# EAGLE library part PIC16F1459 (library maxorig)
PIC16F1459 - Low cost 8-bit USB PIC microcontroller One of the only USB-capable microcontrollers available in a DIP package for beginner solderers. Technical specifications: VCC: 2.3-5.5V (1.8-3.6V on L series) Program space: 8 Kb RAM: 1 Kb GPIOs: 17 (includes 3 input-only pins) ADC channels: 9 ADC bits: 10 DACs: 1 1 UART/LIN 1 I2C/SPI
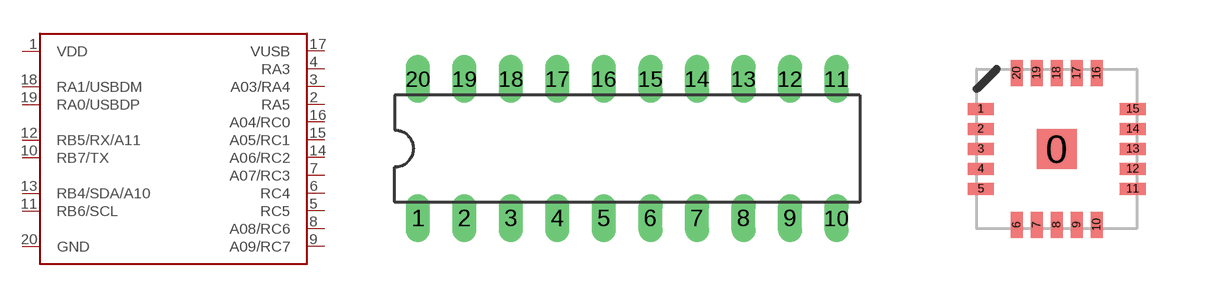
[diagram p4: symbol with the pads of DIL20; footprints DIL20, QFN20_4X4]

Designator prefix -

## PIC16F1459DIL  [DIL20]
1  VDD
2  RA5
3  A03/RA4
4  RA3
5  RC5
6  RC4
7  A07/RC3
8  A08/RC6
9  A09/RC7
10  RB7/TX
11  RB6/SCL
12  RB5/RX/A11
13  RB4/SDA/A10
14  A06/RC2
15  A05/RC1
16  A04/RC0
17  VUSB
18  RA1/USBDM
19  RA0/USBDP
20  GND

## PIC16F1459QFN  [QFN20_4X4]
0  GND
1  RA3
2  RC5
3  RC4
4  A07/RC3
5  A08/RC6
6  A09/RC7
7  RB7/TX
8  RB6/SCL
9  RB5/RX/A11
10  RB4/SDA/A10
11  A06/RC2
12  A05/RC1
13  A04/RC0
14  VUSB
15  RA1/USBDM
16  RA0/USBDP
17  GND
18  VDD
19  RA5
20  A03/RA4

## PIC16F1459SOIC  [SOIC-20W]
Pads as for DIL20

## PIC16F1459TSSOP  [TSSOP20]
Pads as for DIL20

## Footprint DIL20 (pad centres in mm)
Dual In Line Package
drill 0.813 long: 1 -11.43,-3.81; 2 -8.89,-3.81; 3 -6.35,-3.81; 4 -3.81,-3.81; 5 -1.27,-3.81; 6 1.27,-3.81; 7 3.81,-3.81; 8 6.35,-3.81; 9 8.89,-3.81; 10 11.43,-3.81; 11 11.43,3.81; 12 8.89,3.81; 13 6.35,3.81; 14 3.81,3.81; 15 1.27,3.81; 16 -1.27,3.81; 17 -3.81,3.81; 18 -6.35,3.81; 19 -8.89,3.81; 20 -11.43,3.81

## Footprint QFN20_4X4 (pad centres in mm)
smd 1 x 1: 0 0,0
smd 0.65 x 0.3: 1 -1.9,1; 2 -1.9,0.5; 3 -1.9,0; 4 -1.9,-0.5; 5 -1.9,-1; 11 1.9,-1; 12 1.9,-0.5; 13 1.9,0; 14 1.9,0.5; 15 1.9,1
smd 0.3 x 0.65: 6 -1,-1.9; 7 -0.5,-1.9; 8 0,-1.9; 9 0.5,-1.9; 10 1,-1.9; 16 1,1.9; 17 0.5,1.9; 18 0,1.9; 19 -0.5,1.9; 20 -1,1.9

## Footprint SOIC-20W (pad centres in mm)
SMALL OUTLINE PACKAGE
smd 0.6 x 2.2: 1 -5.715,-5; 2 -4.445,-5; 3 -3.175,-5; 4 -1.905,-5; 5 -0.635,-5; 6 0.635,-5; 7 1.905,-5; 8 3.175,-5; 9 4.445,-5; 10 5.715,-5; 11 5.715,5; 12 4.445,5; 13 3.175,5; 14 1.905,5; 15 0.635,5; 16 -0.635,5; 17 -1.905,5; 18 -3.175,5; 19 -4.445,5; 20 -5.715,5

## Footprint TSSOP20 (pad centres in mm)
smd 0.305 x 0.991: 1 -2.925,-2.918; 2 -2.275,-2.918; 3 -1.625,-2.918; 4 -0.975,-2.918; 5 -0.325,-2.918; 6 0.325,-2.918; 7 0.975,-2.918; 8 1.625,-2.918; 9 2.275,-2.918; 10 2.925,-2.918; 11 2.925,2.918; 12 2.275,2.918; 13 1.625,2.918; 14 0.975,2.918; 15 0.325,2.918; 16 -0.325,2.918; 17 -0.975,2.918; 18 -1.625,2.918; 19 -2.275,2.918; 20 -2.925,2.918